# EAGLE library part VR_STAMP (library sensory)
SENSORY SPEECH RECOGNITION MODULE RSC-4128 Sensory Speech Processor Speaker (In-)Dependent Recognition 1 MBit FLASH 128 Kbytes Serial EEPROM for data 14MHz (main) & 32kHz (time keeping) clocks 24 I/O lines Microphone preamplifier Pulse Width Modulator (PWM) for Speaker and optional DAC output Source: www.sensory.com
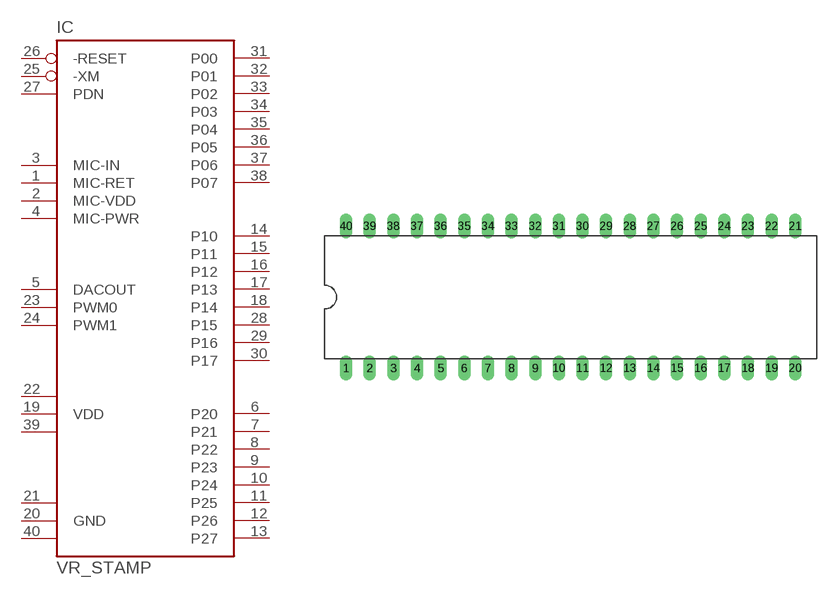
[diagram p0: symbol with the pads of VR_STAMP; footprint VR_STAMP]

Designator prefix IC

## VR_STAMP-DIL40  [VR_STAMP]
1  MIC-RET  in
2  MIC-VDD  sup
3  MIC-IN  in
4  MIC-PWR  sup
5  DACOUT  out
6  P20
7  P21
8  P22
9  P23
10  P24
11  P25
12  P26
13  P27
14  P10
15  P11
16  P12
17  P13
18  P14
19  VDD  pwr
20  GND  pwr
21  GND1  pwr
22  VDD1  pwr
23  PWM0  out
24  PWM1  out
25  -XM  in
26  -RESET  in
27  PDN  out
28  P15
29  P16
30  P17
31  P00
32  P01
33  P02
34  P03
35  P04
36  P05
37  P06
38  P07
39  VDD2  pwr
40  GND2  pwr

## Footprint VR_STAMP (pad centres in mm)
Dual In Line DIL-40
drill 0.813 long: 1 -24.13,-7.62; 2 -21.59,-7.62; 3 -19.05,-7.62; 4 -16.51,-7.62; 5 -13.97,-7.62; 6 -11.43,-7.62; 7 -8.89,-7.62; 8 -6.35,-7.62; 9 -3.81,-7.62; 10 -1.27,-7.62; 11 1.27,-7.62; 12 3.81,-7.62; 13 6.35,-7.62; 14 8.89,-7.62; 15 11.43,-7.62; 16 13.97,-7.62; 17 16.51,-7.62; 18 19.05,-7.62; 19 21.59,-7.62; 20 24.13,-7.62; 21 24.13,7.62; 22 21.59,7.62; 23 19.05,7.62; 24 16.51,7.62; 25 13.97,7.62; 26 11.43,7.62; 27 8.89,7.62; 28 6.35,7.62; 29 3.81,7.62; 30 1.27,7.62; 31 -1.27,7.62; 32 -3.81,7.62; 33 -6.35,7.62; 34 -8.89,7.62; 35 -11.43,7.62; 36 -13.97,7.62; 37 -16.51,7.62; 38 -19.05,7.62; 39 -21.59,7.62; 40 -24.13,7.62